# EAGLE library part DKA30 (library EurorackModularParts)
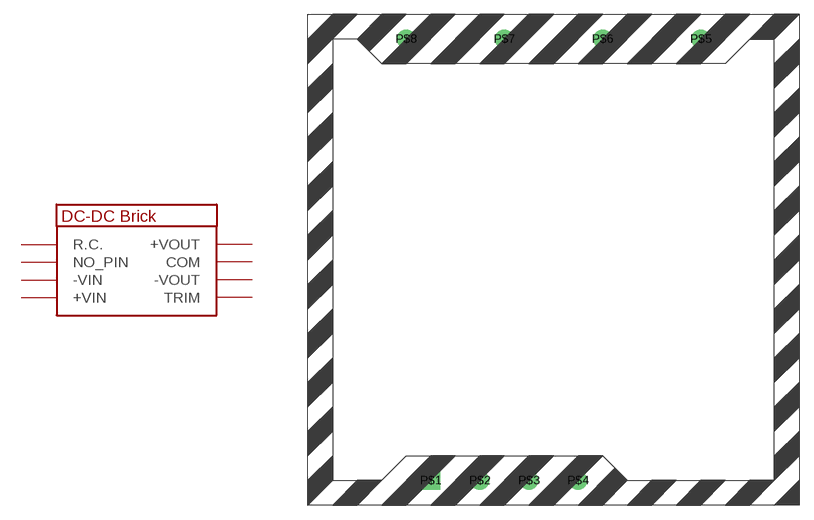
[diagram p19: symbol with the pads of MEANWELL_DKA30; footprint MEANWELL_DKA30]

Designator prefix -

## DKA30  [MEANWELL_DKA30]
P$1  R.C.
P$2  NO_PIN
P$3  -VIN
P$4  +VIN
P$5  +VOUT
P$6  COM
P$7  -VOUT
P$8  TRIM

## Footprint MEANWELL_DKA30 (pad centres in mm)
drill 1.3 square: P$1 0,0
drill 1.3: P$2 5.08,0; P$3 10.16,0; P$4 15.24,0; P$5 27.94,45.72; P$6 17.78,45.72; P$7 7.62,45.72; P$8 -2.54,45.72